# EAGLE library part ESDA6V1BC6 (library sduino)
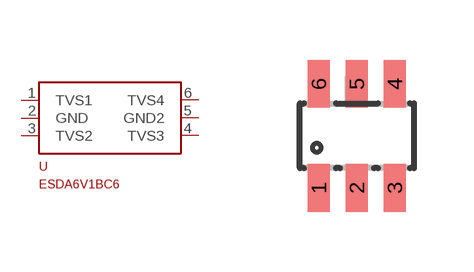
[diagram p4: symbol with the pads of SOT23-6; footprint SOT23-6]

Designator prefix -

## ESDA6V1BC6  [SOT23-6]
1  TVS1
2  GND
3  TVS2
4  TVS3
5  GND2
6  TVS4

## Footprint SOT23-6 (pad centres in mm)
smd 0.55 x 1.2: 1 -0.95,-1.3; 2 0,-1.3; 3 0.95,-1.3; 4 0.95,1.3; 5 0,1.3; 6 -0.95,1.3